# EAGLE library part MINI-FIT_8 (library microLib)
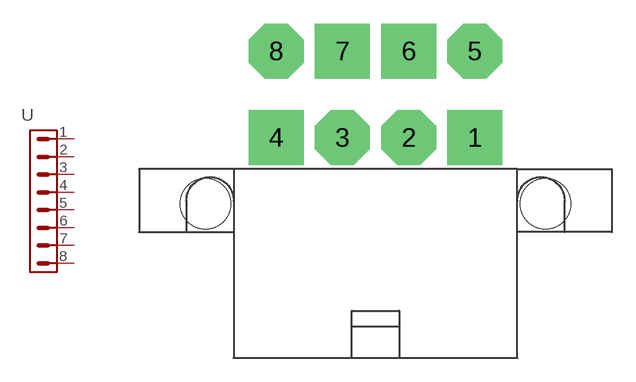
[diagram p10: symbol with the pads of MINI-FIT_8; footprint MINI-FIT_8]

Designator prefix -

## MINI-FIT_8  [MINI-FIT_8]
1  1
2  2
3  3
4  4
5  5
6  6
7  7
8  8

## Footprint MINI-FIT_8 (pad centres in mm)
drill 1.8 pad 3.5 square: 1 6.3,0; 4 -6.3,0; 6 2.1,5.5; 7 -2.1,5.5
drill 1.8 pad 3.5 octagon: 2 2.1,0; 3 -2.1,0; 5 6.3,5.5; 8 -6.3,5.5
hole 3.2 at -10.8,-4.2
hole 3.2 at 10.8,-4.2